# EAGLE library part 28C256_DIP (library EEPROMs)
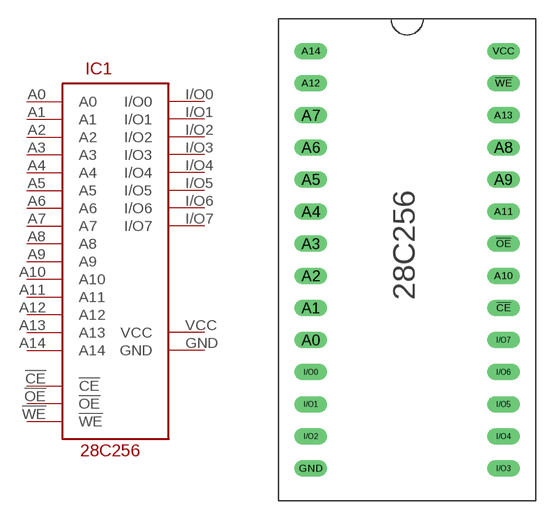
[diagram p0: symbol with the pads of DIP28_WIDE; footprint DIP28_WIDE]

Designator prefix IC1

## 28C256_DIP  [DIP28_WIDE]
!CE  !CE  in
!OE  !OE  in
!WE  !WE  in
A0  A0  in
A1  A1  in
A2  A2  in
A3  A3  in
A4  A4  in
A5  A5  in
A6  A6  in
A7  A7  in
A8  A8  in
A9  A9  in
A10  A10  in
A11  A11  in
A12  A12  in
A13  A13  in
A14  A14  in
GND  GND  pwr
I/O0  I/O0
I/O1  I/O1
I/O2  I/O2
I/O3  I/O3
I/O4  I/O4
I/O5  I/O5
I/O6  I/O6
I/O7  I/O7
VCC  VCC  pwr

## Footprint DIP28_WIDE (pad centres in mm)
drill 0.8 long: !CE 7.62,-3.81; !OE 7.62,1.27; !WE 7.62,13.97; A0 -7.62,-6.35; A1 -7.62,-3.81; A2 -7.62,-1.27; A3 -7.62,1.27; A4 -7.62,3.81; A5 -7.62,6.35; A6 -7.62,8.89; A7 -7.62,11.43; A8 7.62,8.89; A9 7.62,6.35; A10 7.62,-1.27; A11 7.62,3.81; A12 -7.62,13.97; A13 7.62,11.43; A14 -7.62,16.51; GND -7.62,-16.51; I/O0 -7.62,-8.89; I/O1 -7.62,-11.43; I/O2 -7.62,-13.97; I/O3 7.62,-16.51; I/O4 7.62,-13.97; I/O5 7.62,-11.43; I/O6 7.62,-8.89; I/O7 7.62,-6.35; VCC 7.62,16.51